# EAGLE library part A4988 (library FansElectronics-Modul)
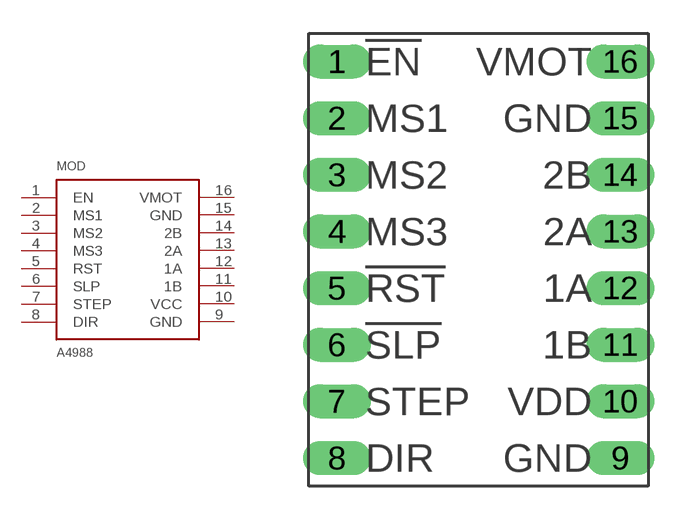
[diagram p31: symbol with the pads of A4988; footprint A4988]

Designator prefix MOD

## A4988  [A4988]
1  EN
2  MS1
3  MS2
4  MS3
5  RST
6  SLP
7  STEP
8  DIR
9  GND  pwr
10  VCC  pwr
11  1B
12  1A
13  2A
14  2B
15  GND  pwr
16  VMOT  pwr

## Footprint A4988 (pad centres in mm)
drill 1.016 long: 1 -6.35,8.89; 2 -6.35,6.35; 3 -6.35,3.81; 4 -6.35,1.27; 5 -6.35,-1.27; 6 -6.35,-3.81; 7 -6.35,-6.35; 8 -6.35,-8.89; 9 6.35,-8.89; 10 6.35,-6.35; 11 6.35,-3.81; 12 6.35,-1.27; 13 6.35,1.27; 14 6.35,3.81; 15 6.35,6.35; 16 6.35,8.89